# EAGLE library part ADF4350 (library adf4350)
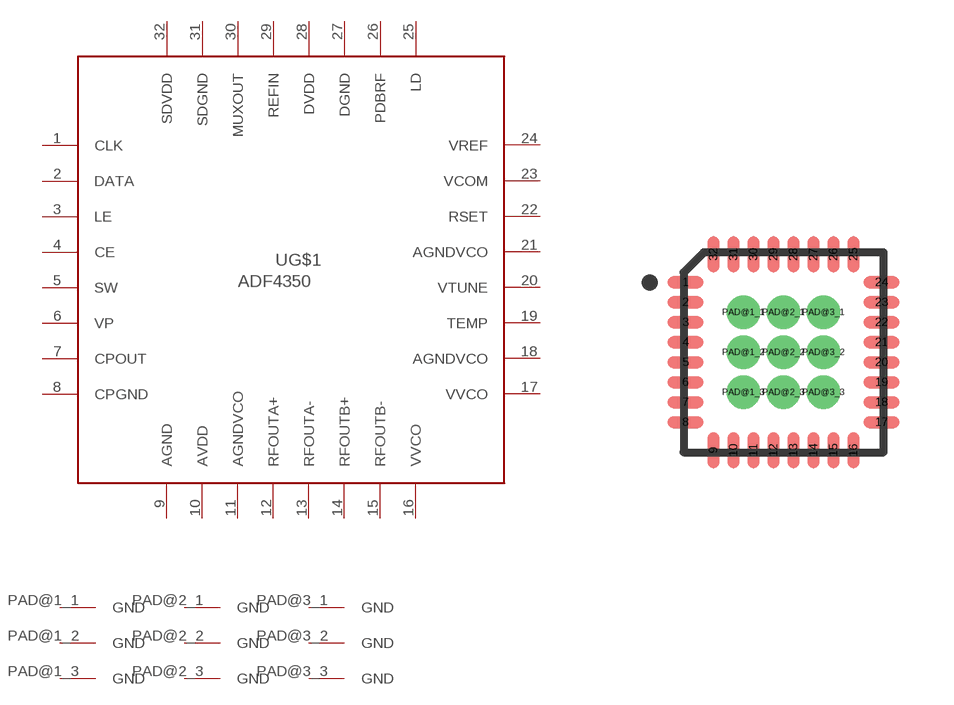
[diagram p0: symbol with the pads of QFN50P500X500X100-33V2N; footprint QFN50P500X500X100-33V2N]

Designator prefix U; gates G$1=ADF4350 G$2=PAD_GROUND G$3=PAD_GROUND G$4=PAD_GROUND G$5=PAD_GROUND G$6=PAD_GROUND G$7=PAD_GROUND G$8=PAD_GROUND G$9=PAD_GROUND G$10=PAD_GROUND

## ADF4350BCPZ  [QFN50P500X500X100-33V2N]
1  G$1:CLK  in
2  G$1:DATA  in
3  G$1:LE  in
4  G$1:CE  in
5  G$1:SW  in
6  G$1:VP  pwr
7  G$1:CPOUT  out
8  G$1:CPGND  pwr
9  G$1:AGND  pwr
10  G$1:AVDD  pwr
11  G$1:AGNDVCO  pwr
12  G$1:RFOUTA+  out
13  G$1:RFOUTA-  out
14  G$1:RFOUTB+  out
15  G$1:RFOUTB-  out
16  G$1:VVCO  pwr
17  G$1:VVCO  pwr
18  G$1:AGNDVCO  pwr
19  G$1:TEMP  out
20  G$1:VTUNE  in
21  G$1:AGNDVCO  pwr
22  G$1:RSET  in
23  G$1:VCOM  out
24  G$1:VREF  out
25  G$1:LD  out
26  G$1:PDBRF  in
27  G$1:DGND  pwr
28  G$1:DVDD  pwr
29  G$1:REFIN  in
30  G$1:MUXOUT  out
31  G$1:SDGND  pwr
32  G$1:SDVDD  pwr
PAD@1_1  G$2:GND  pwr
PAD@1_2  G$3:GND  pwr
PAD@1_3  G$4:GND  pwr
PAD@2_1  G$5:GND  pwr
PAD@2_2  G$6:GND  pwr
PAD@2_3  G$7:GND  pwr
PAD@3_1  G$8:GND  pwr
PAD@3_2  G$9:GND  pwr
PAD@3_3  G$10:GND  pwr

## Footprint QFN50P500X500X100-33V2N (pad centres in mm)
QFN50P500X500X100-33V2N JEDEC MO-220VHHD-2 Analog Devices CP-32-2 Thermal pad: Made with reference to http://www.intersil.com/data/tb/TB389.pdf and others. Pad is solder mask defined (SMD) and 100um (0.1m) smaller on each side than the copper layer. Via drills are approximately .3 to .33mm (12mil to 13mil) on a grid of 1 to 1.2mm. Vias are capped with solder mask, assuming ~4mil (0.1mm) silkscreen displacement error. Via solder mask cap is approximately 700um, which is larger than the recommended 405um, since Sunstone claims no better than 4mil silkscreen displacement error.
smd 0.9 x 0.3: 1 -2.45,1.75; 2 -2.45,1.25; 3 -2.45,0.75; 4 -2.45,0.25; 5 -2.45,-0.25; 6 -2.45,-0.75; 7 -2.45,-1.25; 8 -2.45,-1.75; 17 2.45,-1.75; 18 2.45,-1.25; 19 2.45,-0.75; 20 2.45,-0.25; 21 2.45,0.25; 22 2.45,0.75; 23 2.45,1.25; 24 2.45,1.75
smd 0.3 x 0.9: 9 -1.75,-2.45; 10 -1.25,-2.45; 11 -0.75,-2.45; 12 -0.25,-2.45; 13 0.25,-2.45; 14 0.75,-2.45; 15 1.25,-2.45; 16 1.75,-2.45; 25 1.75,2.45; 26 1.25,2.45; 27 0.75,2.45; 28 0.25,2.45; 29 -0.25,2.45; 30 -0.75,2.45; 31 -1.25,2.45; 32 -1.75,2.45
drill 0.33 round: PAD@1_1 -1,1; PAD@1_2 -1,0; PAD@1_3 -1,-1; PAD@2_1 0,1; PAD@2_2 0,0; PAD@2_3 0,-1; PAD@3_1 1,1; PAD@3_2 1,0; PAD@3_3 1,-1